# Altium footprint library FI_WE-CMB.PcbLib: 1 footprints
Each footprint in its own frame and in the unit in brackets; x right, y up, seen from the top. Pads: shape width x height; smd on the part's side, far side on the other; paste and mask are expansions set on the pad; w line width, h text height; cw(c..) or ccw(c..) is an arc to the next point about the centre after c.
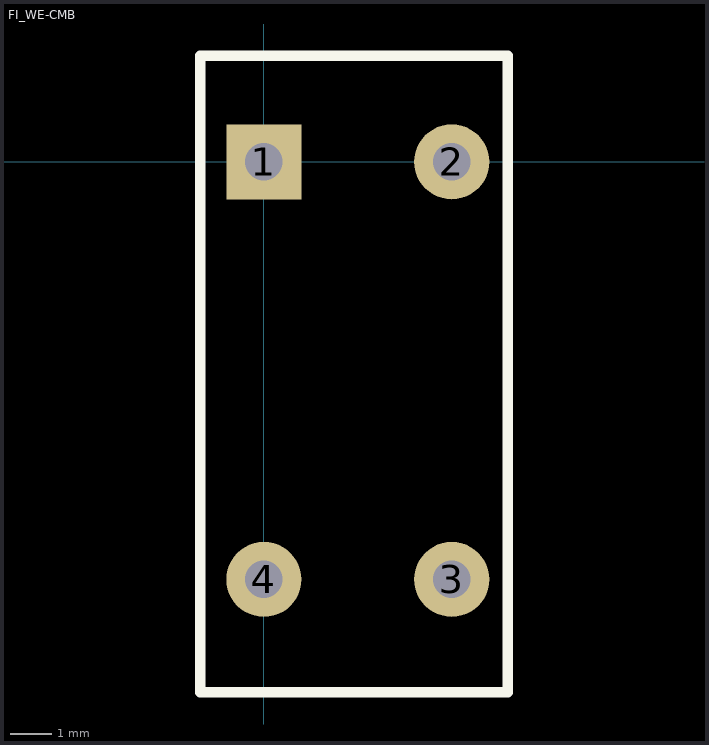
[diagram p0: the footprint, top view; thin cyan lines are the x and y axes]

## FI_WE-CMB [mm]
pads (4):
  rect 1.8x1.8 hole 0.9: 1(0,0)
  round 1.8 hole 0.9: 2(4.5,0) 3(4.5,-10) 4(0,-10)
Top Overlay:
  lines w0.254: -1.524,-12.7 -1.524,2.54 5.842,2.54 5.842,-12.7 -1.524,-12.7
3D body: height 19.55, standoff 0, extent -1.35,-12.542 5.85,2.542